# Altium footprint library mechanical_spacers.PcbLib: 19 footprints (part 2 of 2)
Each footprint in its own frame and in the unit in brackets; x right, y up, seen from the top. Pads: shape width x height; smd on the part's side, far side on the other; paste and mask are expansions set on the pad; w line width, h text height; cw(c..) or ccw(c..) is an arc to the next point about the centre after c.
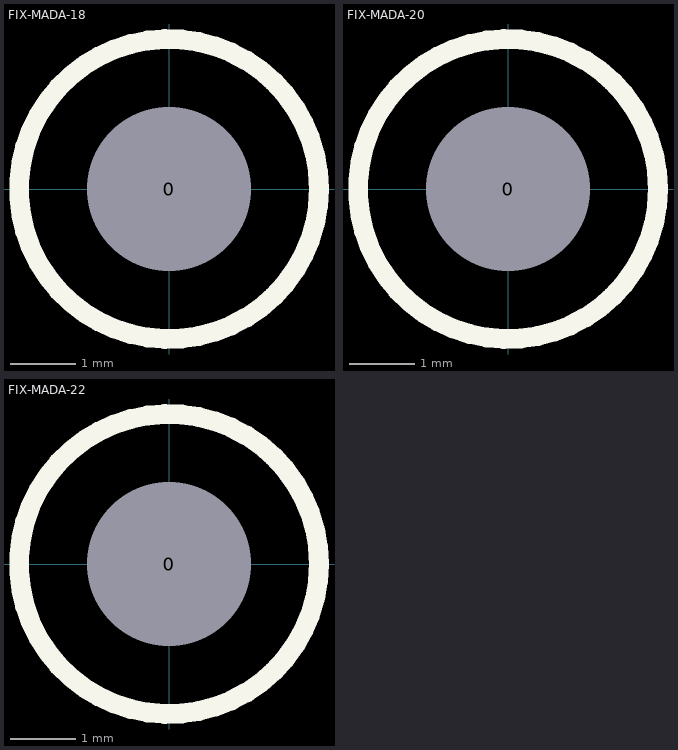
[diagram p1: the footprints below, top view; thin cyan lines are the x and y axes]

## FIX-MADA-18 [mm]
pads (1):
  round 1 hole 2.5: 0(0,0)
Top Overlay:
  circle w0.3: c0,0 r2.286
3D body "User Library-MADA-18.step": height 21.7, standoff -3.7, extent -2.3,-2.3 2.3,2.3

## FIX-MADA-20 [mm]
pads (1):
  round 1 hole 2.5: 0(0,0)
Top Overlay:
  circle w0.3: c0,0 r2.286
3D body "User Library-MADA-20.step": height 23.7, standoff -3.7, extent -2.3,-2.3 2.3,2.3

## FIX-MADA-22 [mm]
pads (1):
  round 1 hole 2.5: 0(0,0)
Top Overlay:
  circle w0.3: c0,0 r2.286
3D body "User Library-MADA-22.step": height 25.7, standoff -3.7, extent -2.3,-2.3 2.3,2.3